# Altium schematic symbol library SCH - AMP - STM TDA7803A-ZST.Schlib: 1 symbol
Pins are listed as number, name and electrical type; pins without a type are passive.

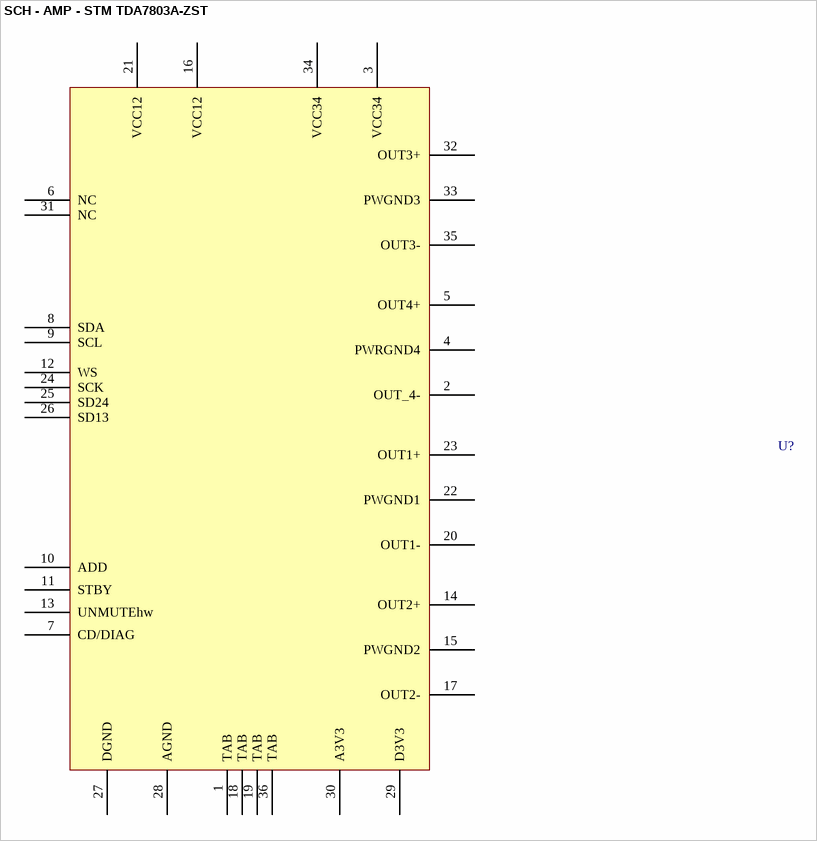
[diagram p0: symbol SCH - AMP - STM TDA7803A-ZST]

## SCH - AMP - STM TDA7803A-ZST
designator U?
footprint PowerSO-36 (SOP, 36-Leads, Body 15,90x11,00mm, Pitch 0,65mm, IPC Medium Density)
pins: 1 TAB, 2 OUT_4-, 3 VCC34, 4 PWRGND4, 5 OUT4+, 6 NC, 7 CD/DIAG, 8 SDA, 9 SCL, 10 ADD, 11 STBY, 12 WS, 13 UNMUTEhw, 14 OUT2+, 15 PWGND2, 16 VCC12, 17 OUT2-, 18 TAB, 19 TAB, 20 OUT1-, 21 VCC12, 22 PWGND1, 23 OUT1+, 24 SCK, 25 SD24, 26 SD13, 27 DGND, 28 AGND, 29 D3V3, 30 A3V3, 31 NC, 32 OUT3+, 33 PWGND3, 34 VCC34, 35 OUT3-, 36 TAB